# Altium footprint library PCB Footprints.PcbLib: 316 footprints (part 1 of 21)
Each footprint in its own frame and in the unit in brackets; x right, y up, seen from the top. Pads: shape width x height; smd on the part's side, far side on the other; paste and mask are expansions set on the pad; w line width, h text height; cw(c..) or ccw(c..) is an arc to the next point about the centre after c.
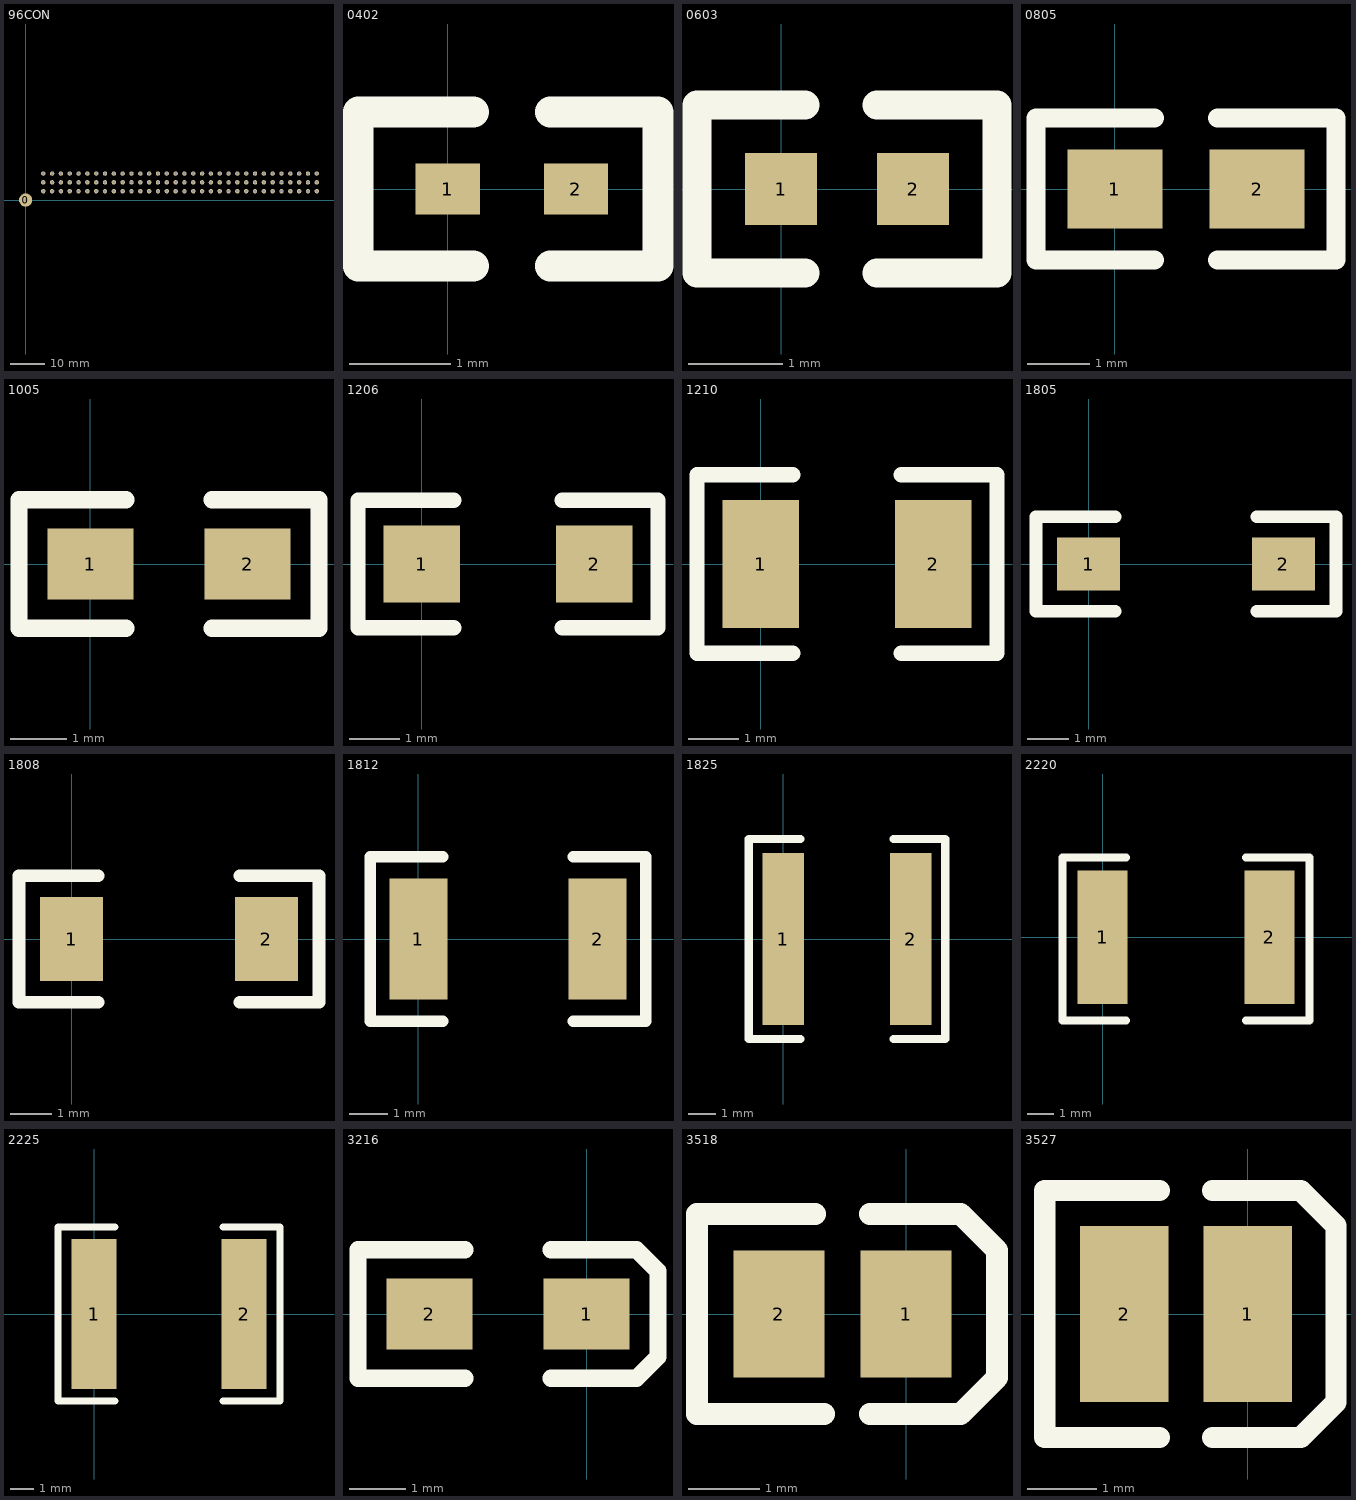
[diagram p0: the footprints below, top view; thin cyan lines are the x and y axes]

## 96CON [mil]
pads (97):
  round 150 hole 30: 0(0,0)
  round 50 hole 30: 1(3300,300) 2(3200,300) 3(3100,300) 4(3000,300) 5(2900,300) 6(2800,300) 7(2700,300) 8(2600,300) 9(2500,300) 10(2400,300) 11(2300,300) 12(2200,300) 13(2100,300) 14(2000,300) 15(1900,300) 16(1800,300) 17(1700,300) 18(1600,300) 19(1500,300) 20(1400,300) 21(1300,300) 22(1200,300) 23(1100,300) 24(1000,300) 25(900,300) 26(800,300) 27(700,300) 28(600,300) 29(500,300) 30(400,300) 31(300,300) 32(200,300) 33(3300,200) 34(3200,200) 35(3100,200) 36(3000,200) 37(2900,200) 38(2800,200) 39(2700,200) 40(2600,200) 41(2500,200) 42(2400,200) 43(2300,200) 44(2200,200) 45(2100,200) 46(2000,200) 47(1900,200) 48(1800,200) 49(1700,200) 50(1600,200) 51(1500,200) 52(1400,200) 53(1300,200) 54(1200,200) 55(1100,200) 56(1000,200) 57(900,200) 58(800,200) 59(700,200) 60(600,200) 61(500,200) 62(400,200) 63(300,200) 64(200,200) 65(3300,100) 66(3200,100) 67(3100,100) 68(3000,100) 69(2900,100) 70(2800,100) 71(2700,100) 72(2600,100) 73(2500,100) 74(2400,100) 75(2300,100) 76(2200,100) 77(2100,100) 78(2000,100) 79(1900,100) 80(1800,100) 81(1700,100) 82(1600,100) 83(1500,100) 84(1400,100) 85(1300,100) 86(1200,100) 87(1100,100) 88(1000,100) 89(900,100) 90(800,100) 91(700,100) 92(600,100) 93(500,100) 94(400,100) 95(300,100) 96(200,100)

## 0402 [mil]
pads (2):
  rect 25x20 smd: 1(0,0) 2(50,0)
TopOverlay:
  lines w12: 10,-30 -35,-30 -35,30 10,30 ; 40,-30 82,-30 82,30 40,30

## 0603 [mil]
pads (2):
  rect 30x30 smd: 1(0,0) 2(55,0)
TopOverlay:
  lines w12: 10,-35 -35,-35 -35,35 10,35 ; 40,-35 90,-35 90,35 40,35

## 0805 [mil]
pads (2):
  rect 60x50 smd: 1(0,0) 2(90,0)
TopOverlay:
  lines w12: 25,-45 -50,-45 -50,45 25,45 ; 65,-45 140,-45 140,45 65,45

## 1005 [mil]
pads (2):
  rect 60x50 smd: 1(0,0) 2(110,0)
TopOverlay:
  lines w12: 25,-45 -50,-45 -50,45 25,45 ; 85,-45 160,-45 160,45 85,45

## 1206 [mil]
pads (2):
  rect 60x60 smd: 1(0,0) 2(135,0)
TopOverlay:
  lines w12: 25,-50 -50,-50 -50,50 25,50 ; 110,-50 185,-50 185,50 110,50

## 1210 [mil]
pads (2):
  rect 60x100 smd: 1(0,0) 2(135,0)
TopOverlay:
  lines w12: 25,-70 -50,-70 -50,70 25,70 ; 110,-70 185,-70 185,70 110,70

## 1805 [mil]
pads (2):
  rect 60x50 smd: 1(0,0) 2(185,0)
TopOverlay:
  lines w12: 25,-45 -50,-45 -50,45 25,45 ; 160,-45 235,-45 235,45 160,45

## 1808 [mil]
pads (2):
  rect 60x80 smd: 1(0,0) 2(185,0)
TopOverlay:
  lines w12: 25,-60 -50,-60 -50,60 25,60 ; 160,-60 235,-60 235,60 160,60

## 1812 [mil]
pads (2):
  rect 60x125 smd: 1(0,0) 2(185,0)
TopOverlay:
  lines w12: 25,-85 -50,-85 -50,85 25,85 ; 160,-85 235,-85 235,85 160,85

## 1825 [mil]
pads (2):
  rect 60x250 smd: 1(0,0) 2(185,0)
TopOverlay:
  lines w12: 25,-145 -50,-145 -50,145 25,145 ; 160,-145 235,-145 235,145 160,145

## 2220 [mil]
pads (2):
  rect 75x200 smd: 1(0,0) 2(250,0)
TopOverlay:
  lines w12: 35,-125 -60,-125 -60,120 35,120 ; 215,-125 310,-125 310,120 215,120

## 2225 [mil]
pads (2):
  rect 75x250 smd: 1(0,0) 2(250,0)
TopOverlay:
  lines w12: 35,-145 -60,-145 -60,145 35,145 ; 215,-145 310,-145 310,145 215,145

## 3216 [mil]
pads (2):
  rect 60x50 smd: 1(0,0) 2(-110,0)
TopOverlay:
  lines w12: -85,-45 -160,-45 -160,45 -85,45 ; -25,-45 35,-45 50,-30 50,30 35,45 -25,45

## 3518 [mil]
pads (2):
  rect 50x70 smd: 1(0,0) 2(-70,0)
TopOverlay:
  lines w12: -50,55 -115,55 -115,-55 -45,-55 ; -20,-55 30,-55 50,-35 50,35 30,55 -20,55

## 3527 [mil]
pads (2):
  rect 50x100 smd: 1(0,0) 2(-70,0)
TopOverlay:
  lines w12: -50,-70 -115,-70 -115,70 -50,70 ; -20,-70 30,-70 50,-50 50,50 30,70 -20,70